# Altium schematic symbol library MCU_SEEED_XIAO_Series.SchLib: 13 symbols
Pins are listed as number, name and electrical type; pins without a type are passive.

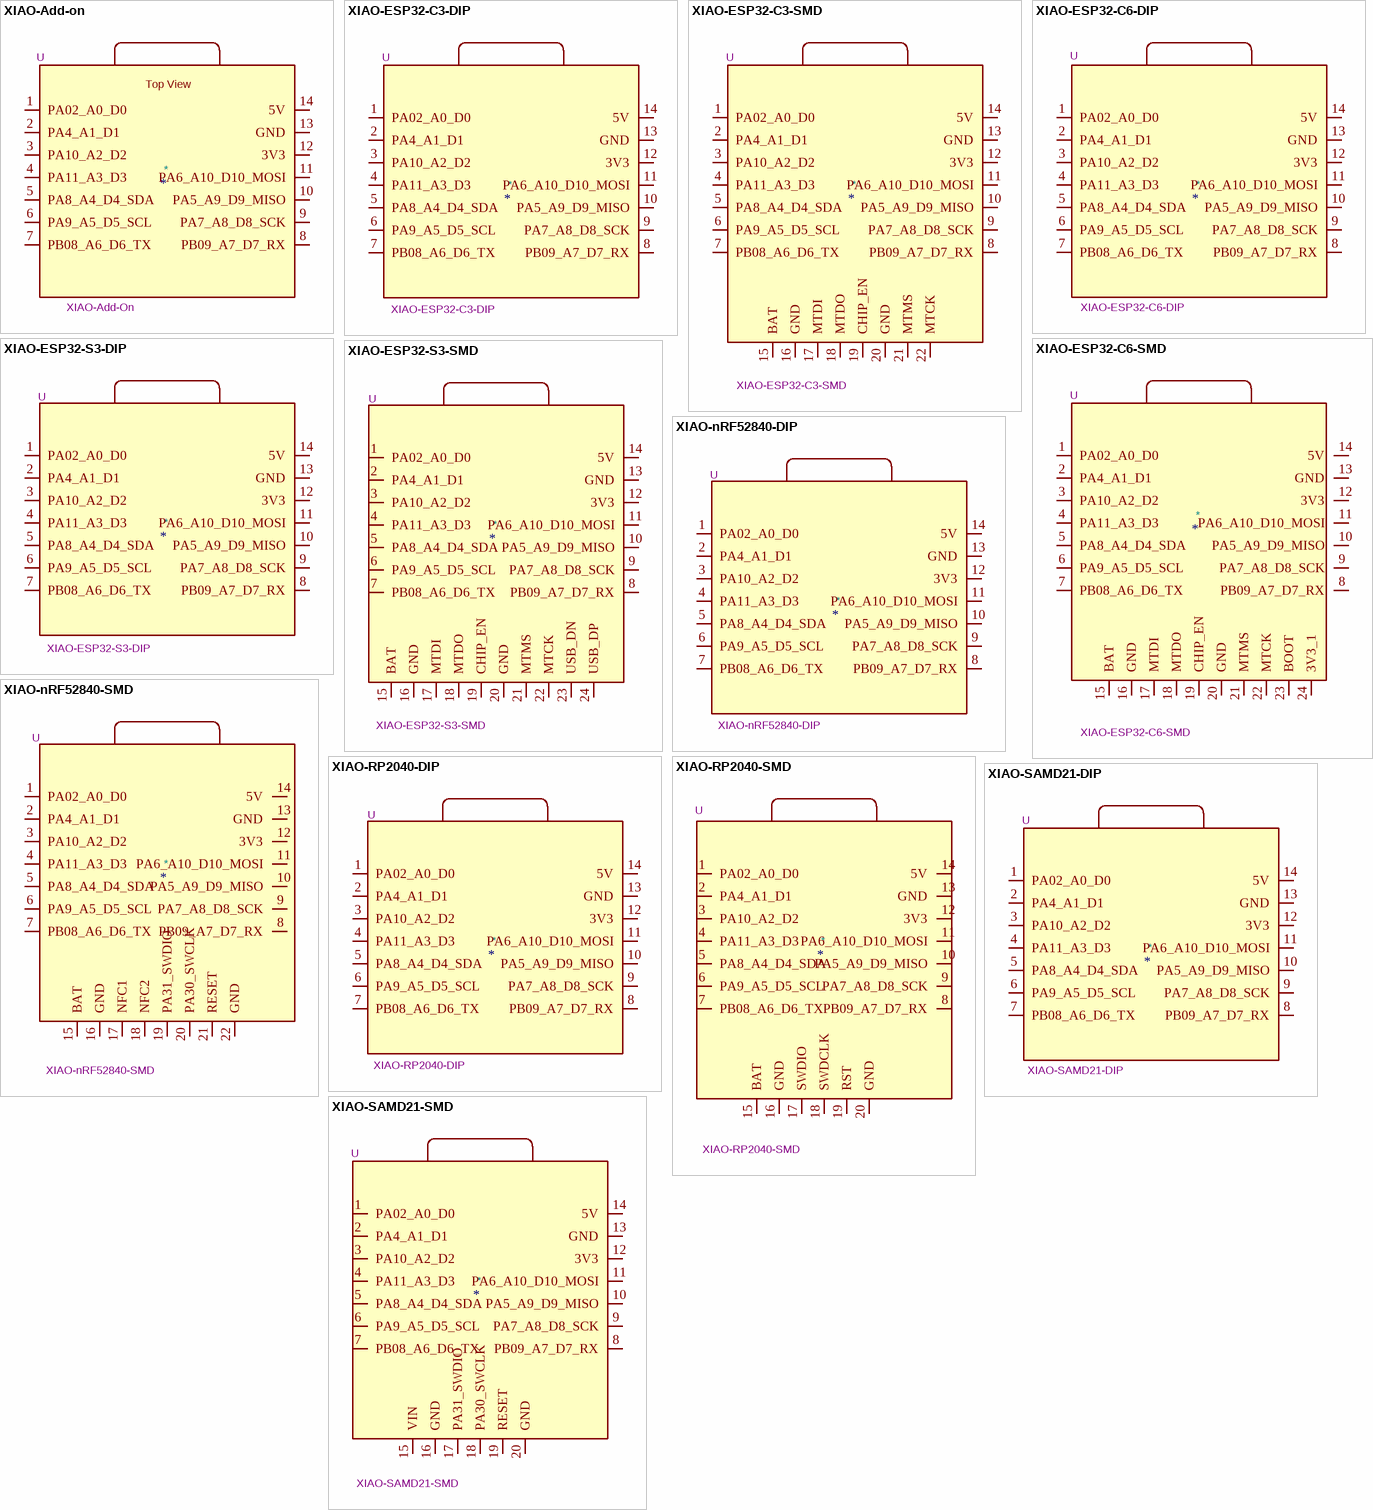
[diagram p0: symbols XIAO-Add-on to XIAO-SAMD21-SMD]

## XIAO-Add-on
designator *  value XIAO-Add-On  Reference: U
Footprint: MCU_SEEED_XIAO_Series:XIAO-Add-On
pins: 1 PA02_A0_D0, 2 PA4_A1_D1, 3 PA10_A2_D2, 4 PA11_A3_D3, 5 PA8_A4_D4_SDA, 6 PA9_A5_D5_SCL, 7 PB08_A6_D6_TX, 8 PB09_A7_D7_RX, 9 PA7_A8_D8_SCK, 10 PA5_A9_D9_MISO, 11 PA6_A10_D10_MOSI, 12 3V3, 13 GND, 14 5V
text: Top View

## XIAO-ESP32-C3-DIP
designator *  value XIAO-ESP32-C3-DIP  Reference: U
Footprint: MCU_SEEED_XIAO_Series:XIAO-ESP32-C3-DIP
pins: 1 PA02_A0_D0, 2 PA4_A1_D1, 3 PA10_A2_D2, 4 PA11_A3_D3, 5 PA8_A4_D4_SDA, 6 PA9_A5_D5_SCL, 7 PB08_A6_D6_TX, 8 PB09_A7_D7_RX, 9 PA7_A8_D8_SCK, 10 PA5_A9_D9_MISO, 11 PA6_A10_D10_MOSI, 12 3V3, 13 GND, 14 5V

## XIAO-ESP32-C3-SMD
designator *  value XIAO-ESP32-C3-SMD  Reference: U
Footprint: MCU_SEEED_XIAO_Series:XIAO-ESP32-C3-SMD
pins: 1 PA02_A0_D0, 2 PA4_A1_D1, 3 PA10_A2_D2, 4 PA11_A3_D3, 5 PA8_A4_D4_SDA, 6 PA9_A5_D5_SCL, 7 PB08_A6_D6_TX, 8 PB09_A7_D7_RX, 9 PA7_A8_D8_SCK, 10 PA5_A9_D9_MISO, 11 PA6_A10_D10_MOSI, 12 3V3, 13 GND, 14 5V, 15 BAT, 16 GND, 17 MTDI, 18 MTDO, 19 CHIP_EN, 20 GND, 21 MTMS, 22 MTCK

## XIAO-ESP32-C6-DIP
designator *  value XIAO-ESP32-C6-DIP  Reference: U
Footprint: MCU_SEEED_XIAO_Series:XIAO-ESP32-C6-DIP
pins: 1 PA02_A0_D0, 2 PA4_A1_D1, 3 PA10_A2_D2, 4 PA11_A3_D3, 5 PA8_A4_D4_SDA, 6 PA9_A5_D5_SCL, 7 PB08_A6_D6_TX, 8 PB09_A7_D7_RX, 9 PA7_A8_D8_SCK, 10 PA5_A9_D9_MISO, 11 PA6_A10_D10_MOSI, 12 3V3, 13 GND, 14 5V

## XIAO-ESP32-C6-SMD
designator *  value XIAO-ESP32-C6-SMD  Reference: U
Footprint: MCU_SEEED_XIAO_Series:XIAO-ESP32-C6-SMD
pins: 1 PA02_A0_D0, 2 PA4_A1_D1, 3 PA10_A2_D2, 4 PA11_A3_D3, 5 PA8_A4_D4_SDA, 6 PA9_A5_D5_SCL, 7 PB08_A6_D6_TX, 8 PB09_A7_D7_RX, 9 PA7_A8_D8_SCK, 10 PA5_A9_D9_MISO, 11 PA6_A10_D10_MOSI, 12 3V3, 13 GND, 14 5V, 15 BAT, 16 GND, 17 MTDI, 18 MTDO, 19 CHIP_EN, 20 GND, 21 MTMS, 22 MTCK, 23 BOOT, 24 3V3_1

## XIAO-ESP32-S3-DIP
designator *  value XIAO-ESP32-S3-DIP  Reference: U
Footprint: MCU_SEEED_XIAO_Series:XIAO-ESP32-S3-DIP
pins: 1 PA02_A0_D0, 2 PA4_A1_D1, 3 PA10_A2_D2, 4 PA11_A3_D3, 5 PA8_A4_D4_SDA, 6 PA9_A5_D5_SCL, 7 PB08_A6_D6_TX, 8 PB09_A7_D7_RX, 9 PA7_A8_D8_SCK, 10 PA5_A9_D9_MISO, 11 PA6_A10_D10_MOSI, 12 3V3, 13 GND, 14 5V

## XIAO-ESP32-S3-SMD
designator *  value XIAO-ESP32-S3-SMD  Reference: U
Footprint: MCU_SEEED_XIAO_Series:XIAO-ESP32-S3-SMD
pins: 1 PA02_A0_D0, 2 PA4_A1_D1, 3 PA10_A2_D2, 4 PA11_A3_D3, 5 PA8_A4_D4_SDA, 6 PA9_A5_D5_SCL, 7 PB08_A6_D6_TX, 8 PB09_A7_D7_RX, 9 PA7_A8_D8_SCK, 10 PA5_A9_D9_MISO, 11 PA6_A10_D10_MOSI, 12 3V3, 13 GND, 14 5V, 15 BAT, 16 GND, 17 MTDI, 18 MTDO, 19 CHIP_EN, 20 GND, 21 MTMS, 22 MTCK, 23 USB_DN, 24 USB_DP

## XIAO-nRF52840-DIP
designator *  value XIAO-nRF52840-DIP  Reference: U
Footprint: MCU_SEEED_XIAO_Series:XIAO-nRF52840-DIP
pins: 1 PA02_A0_D0, 2 PA4_A1_D1, 3 PA10_A2_D2, 4 PA11_A3_D3, 5 PA8_A4_D4_SDA, 6 PA9_A5_D5_SCL, 7 PB08_A6_D6_TX, 8 PB09_A7_D7_RX, 9 PA7_A8_D8_SCK, 10 PA5_A9_D9_MISO, 11 PA6_A10_D10_MOSI, 12 3V3, 13 GND, 14 5V

## XIAO-nRF52840-SMD
designator *  value XIAO-nRF52840-SMD  Reference: U
Footprint: MCU_SEEED_XIAO_Series:XIAO-nRF52840-SMD
pins: 1 PA02_A0_D0, 2 PA4_A1_D1, 3 PA10_A2_D2, 4 PA11_A3_D3, 5 PA8_A4_D4_SDA, 6 PA9_A5_D5_SCL, 7 PB08_A6_D6_TX, 8 PB09_A7_D7_RX, 9 PA7_A8_D8_SCK, 10 PA5_A9_D9_MISO, 11 PA6_A10_D10_MOSI, 12 3V3, 13 GND, 14 5V, 15 BAT, 16 GND, 17 NFC1, 18 NFC2, 19 PA31_SWDIO, 20 PA30_SWCLK, 21 RESET, 22 GND

## XIAO-RP2040-DIP
designator *  value XIAO-RP2040-DIP  Reference: U
Footprint: MCU_SEEED_XIAO_Series:XIAO-RP2040-DIP
pins: 1 PA02_A0_D0, 2 PA4_A1_D1, 3 PA10_A2_D2, 4 PA11_A3_D3, 5 PA8_A4_D4_SDA, 6 PA9_A5_D5_SCL, 7 PB08_A6_D6_TX, 8 PB09_A7_D7_RX, 9 PA7_A8_D8_SCK, 10 PA5_A9_D9_MISO, 11 PA6_A10_D10_MOSI, 12 3V3, 13 GND, 14 5V

## XIAO-RP2040-SMD
designator *  value XIAO-RP2040-SMD  Reference: U
Footprint: MCU_SEEED_XIAO_Series:XIAO-RP2040-SMD
pins: 1 PA02_A0_D0, 2 PA4_A1_D1, 3 PA10_A2_D2, 4 PA11_A3_D3, 5 PA8_A4_D4_SDA, 6 PA9_A5_D5_SCL, 7 PB08_A6_D6_TX, 8 PB09_A7_D7_RX, 9 PA7_A8_D8_SCK, 10 PA5_A9_D9_MISO, 11 PA6_A10_D10_MOSI, 12 3V3, 13 GND, 14 5V, 15 BAT, 16 GND, 17 SWDIO, 18 SWDCLK, 19 RST, 20 GND

## XIAO-SAMD21-DIP
designator *  value XIAO-SAMD21-DIP  Reference: U
Footprint: MCU_SEEED_XIAO_Series:XIAO-SAMD21-DIP
pins: 1 PA02_A0_D0, 2 PA4_A1_D1, 3 PA10_A2_D2, 4 PA11_A3_D3, 5 PA8_A4_D4_SDA, 6 PA9_A5_D5_SCL, 7 PB08_A6_D6_TX, 8 PB09_A7_D7_RX, 9 PA7_A8_D8_SCK, 10 PA5_A9_D9_MISO, 11 PA6_A10_D10_MOSI, 12 3V3, 13 GND, 14 5V

## XIAO-SAMD21-SMD
designator *  value XIAO-SAMD21-SMD  Reference: U
Footprint: MCU_SEEED_XIAO_Series:XIAO-SAMD21-SMD
pins: 1 PA02_A0_D0, 2 PA4_A1_D1, 3 PA10_A2_D2, 4 PA11_A3_D3, 5 PA8_A4_D4_SDA, 6 PA9_A5_D5_SCL, 7 PB08_A6_D6_TX, 8 PB09_A7_D7_RX, 9 PA7_A8_D8_SCK, 10 PA5_A9_D9_MISO, 11 PA6_A10_D10_MOSI, 12 3V3, 13 GND, 14 5V, 15 VIN, 16 GND, 17 PA31_SWDIO, 18 PA30_SWCLK, 19 RESET, 20 GND